# Altium footprint library SparkFun-LED.PCBLIB: 34 footprints (part 3 of 3)
Each footprint in its own frame and in the unit in brackets; x right, y up, seen from the top. Pads: shape width x height; smd on the part's side, far side on the other; paste and mask are expansions set on the pad; w line width, h text height; cw(c..) or ccw(c..) is an arc to the next point about the centre after c.
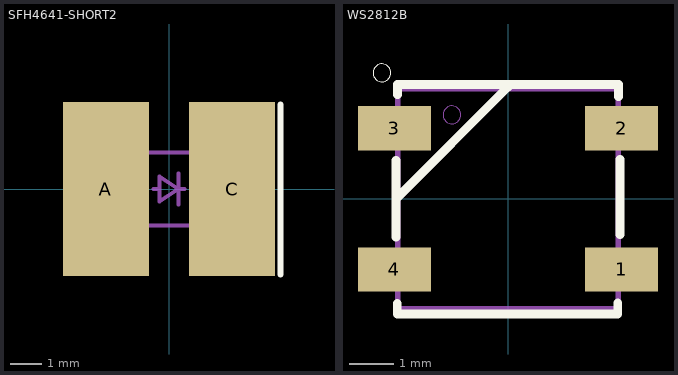
[diagram p2: the footprints below, top view; thin cyan lines are the x and y axes]

## SFH4641-SHORT2 [mm]
pads (2):
  rect 2.77x5.62 smd: A(-2.035,0) C(2.035,0)
Top Overlay:
  lines w0.203: 3.602,-2.762 3.602,2.723
Top Paste:
  region: 0.65,1.4 0.65,-1.4 2.2,-1.4 2.2,1.4
  region: -2.2,1.4 -2.2,-1.4 -0.65,-1.4 -0.65,1.4
Top Solder:
  region: 0.65,1.4 0.65,-1.4 2.2,-1.4 2.2,1.4
  region: -2.2,1.4 -2.2,-1.4 -0.65,-1.4 -0.65,1.4
Mechanical 16:
  lines w0.127: -0.5,0 -0.3,0 ; 0.3,-0.5 0.3,0 ; 0.3,0.5 0.3,0 ; 0.5,0 0.3,0 ; -0.3,0 -0.3,0.4 0.3,0 ; -0.3,0 -0.3,-0.4 0.3,0 ; -1.65,-1.175 -1.65,1.175 1.65,1.175 1.65,-1.175 -1.65,-1.175

## WS2812B [mil]
pads (4):
  rect 65x39.37 smd: 1(101.46,-62.99) 2(101.46,62.99) 3(-101.46,62.99) 4(-101.46,-62.99)
Top Overlay:
  circle w0: c-112.5,112.5 r8
  lines w8: -100,-34 -100,0 ; -100,34 -100,0 ; -98.9,-93.7 -98.9,-102.8 96,-102.8 96,-103 98,-103 98,-93 ; -98.8,93.2 -98.8,102.1 96.8,102.1 96.8,102 98.8,102 98.8,91.3 ; 0,100 -100,0 ; 100,-32 100,35
Mechanical 16:
  circle w0: c-50,75 r8
  lines w5: -98.43,-98.43 -98.43,98.43 98.43,98.43 98.43,-98.43 -98.43,-98.43